# EAGLE library part TS3USB30E (library TS3USB30)
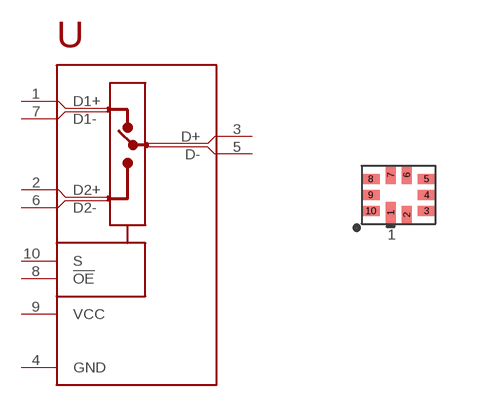
[diagram p0: symbol with the pads of TQFP10; footprint TQFP10]

Designator prefix -

## TS3USB30E  [TQFP10]
1  D1+
2  D2+
3  D+
4  GND
5  D-
6  D2-
7  D1-
8  !OE
9  VCC
10  S

## Footprint TQFP10 (pad centres in mm)
smd 0.25 x 0.55: 1 -0.2,-1.175
smd 0.25 x 0.45: 2 0.2,-1.225; 6 0.2,-0.225; 7 -0.2,-0.225
smd 0.45 x 0.25: 3 0.7,-1.125; 4 0.7,-0.725; 5 0.7,-0.325; 8 -0.7,-0.325; 9 -0.7,-0.725; 10 -0.7,-1.125